# Altium footprint library DIP.PcbLib: 6 footprints
Each footprint in its own frame and in the unit in brackets; x right, y up, seen from the top. Pads: shape width x height; smd on the part's side, far side on the other; paste and mask are expansions set on the pad; w line width, h text height; cw(c..) or ccw(c..) is an arc to the next point about the centre after c.
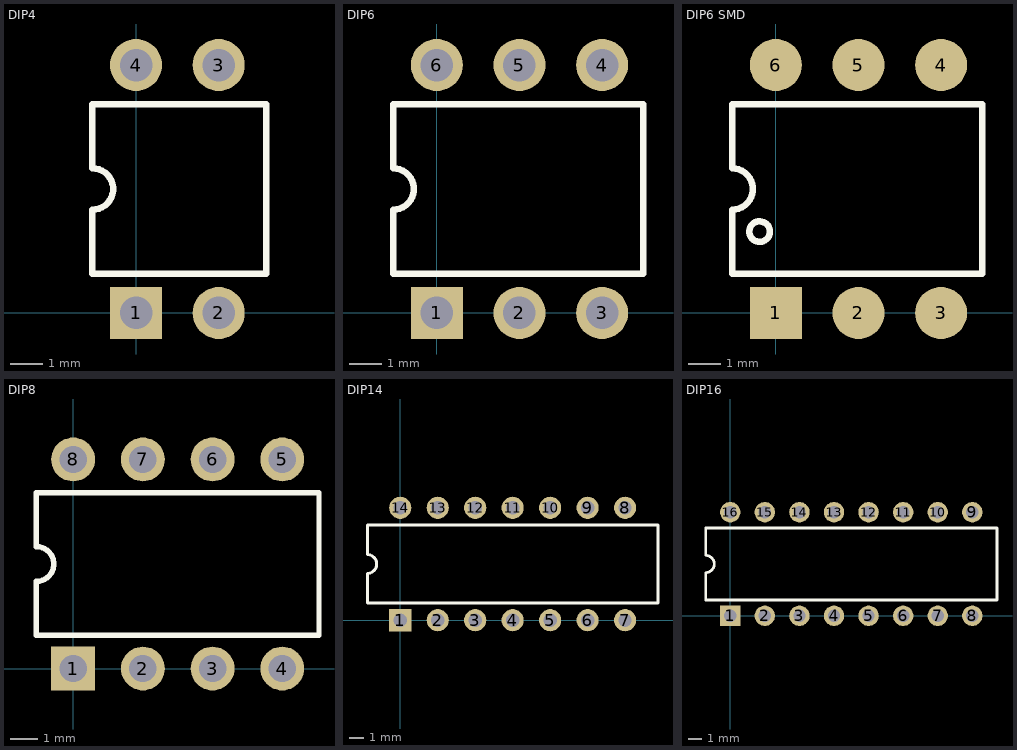
[diagram p0: the footprints below, top view; thin cyan lines are the x and y axes]

## DIP4 [mm]
pads (4):
  rect 1.6x1.6 hole 1: 1(0,0)
  round 1.6 hole 1: 2(2.54,0) 3(2.54,7.62) 4(0,7.62)
Top Overlay:
  lines w0.2: -1.34,1.21 -1.34,3.175 ccw(c-1.34,3.81) -1.34,4.445 -1.34,6.41 4,6.41 4,1.21 -1.34,1.21
3D body: height 4.3, standoff -2.7, extent -0.995,-0.14 3.595,7.74

## DIP6 [mm]
pads (6):
  rect 1.6x1.6 hole 1: 1(0,0)
  round 1.6 hole 1: 2(2.54,0) 3(5.08,0) 4(5.08,7.62) 5(2.54,7.62) 6(0,7.62)
Top Overlay:
  lines w0.2: -1.34,1.21 6.35,1.21 6.35,6.41 -1.34,6.41 -1.34,4.445 cw(c-1.34,3.81) -1.34,3.175 -1.34,1.21
3D body: height 4.3, standoff -3, extent -1.02,-0.25 6.1,7.62

## DIP6 SMD [mm]
pads (6):
  rect 1.6x1.6 smd: 1(0,0)
  round 1.6 smd: 2(2.54,0) 3(5.08,0) 4(5.08,7.62) 5(2.54,7.62) 6(0,7.62)
Top Overlay:
  circle w0.2: c-0.5,2.5 r0.316
  lines w0.2: -1.34,1.21 -1.34,3.175 ccw(c-1.34,3.81) -1.34,4.445 -1.34,6.41 6.35,6.41 6.35,1.21 -1.34,1.21
3D body: height 7.3, standoff 0, extent -1.02,-0.25 6.1,7.62

## DIP8 [mm]
pads (8):
  rect 1.6x1.6 hole 1: 1(0,0)
  round 1.6 hole 1: 2(2.54,0) 3(5.08,0) 4(7.62,0) 5(7.62,7.62) 6(5.08,7.62) 7(2.54,7.62) 8(0,7.62)
Top Overlay:
  lines w0.2: -1.34,1.21 -1.34,3.175 ccw(c-1.34,3.81) -1.34,4.445 -1.34,6.41 8.96,6.41 8.96,1.21 -1.34,1.21
3D body: height 4.57, standoff -3.81, extent -1.155,-0.1 8.755,7.72

## DIP14 [mm]
pads (14):
  rect 1.5x1.5 hole 0.9: 1(0,0)
  round 1.5 hole 0.9: 2(2.54,0) 3(5.08,0) 4(7.62,0) 5(10.16,0) 6(12.7,0) 7(15.24,0) 8(15.24,7.62) 9(12.7,7.62) 10(10.16,7.62) 11(7.62,7.62) 12(5.08,7.62) 13(2.54,7.62) 14(0,7.62)
Top Overlay:
  lines w0.2: -2.23,1.16 17.47,1.16 17.47,6.46 -2.23,6.46 -2.23,4.445 cw(c-2.23,3.81) -2.23,3.175 -2.23,1.16

## DIP16 [mm]
pads (16):
  rect 1.5x1.5 hole 0.9: 1(0,0)
  round 1.5 hole 0.9: 2(2.54,0) 3(5.08,0) 4(7.62,0) 5(10.16,0) 6(12.7,0) 7(15.24,0) 8(17.78,0) 9(17.78,7.62) 10(15.24,7.62) 11(12.7,7.62) 12(10.16,7.62) 13(7.62,7.62) 14(5.08,7.62) 15(2.54,7.62) 16(0,7.62)
Top Overlay:
  lines w0.2: -1.81,1.16 -1.81,3.175 ccw(c-1.81,3.81) -1.81,4.445 -1.81,6.46 19.59,6.46 19.59,1.16 -1.81,1.16